# EAGLE library part PRTR5V0U4Y (library sduino)
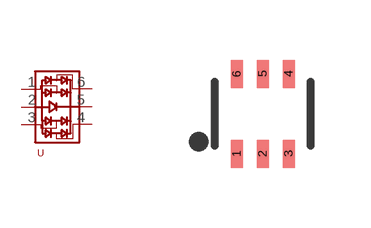
[diagram p6: symbol with the pads of SOT363; footprint SOT363]

Designator prefix -

## PRTR5V0U4Y  [SOT363]
1  P$1
2  P$2
3  P$3
4  P$4
5  P$5
6  P$6

## Footprint SOT363 (pad centres in mm)
smd 0.3 x 0.7: 1 -0.65,-1; 2 0,-1; 3 0.65,-1; 4 0.65,1; 5 0,1; 6 -0.65,1